# Altium schematic symbol library IC.SchLib: 10 symbols
Pins are listed as number, name and electrical type; pins without a type are passive.

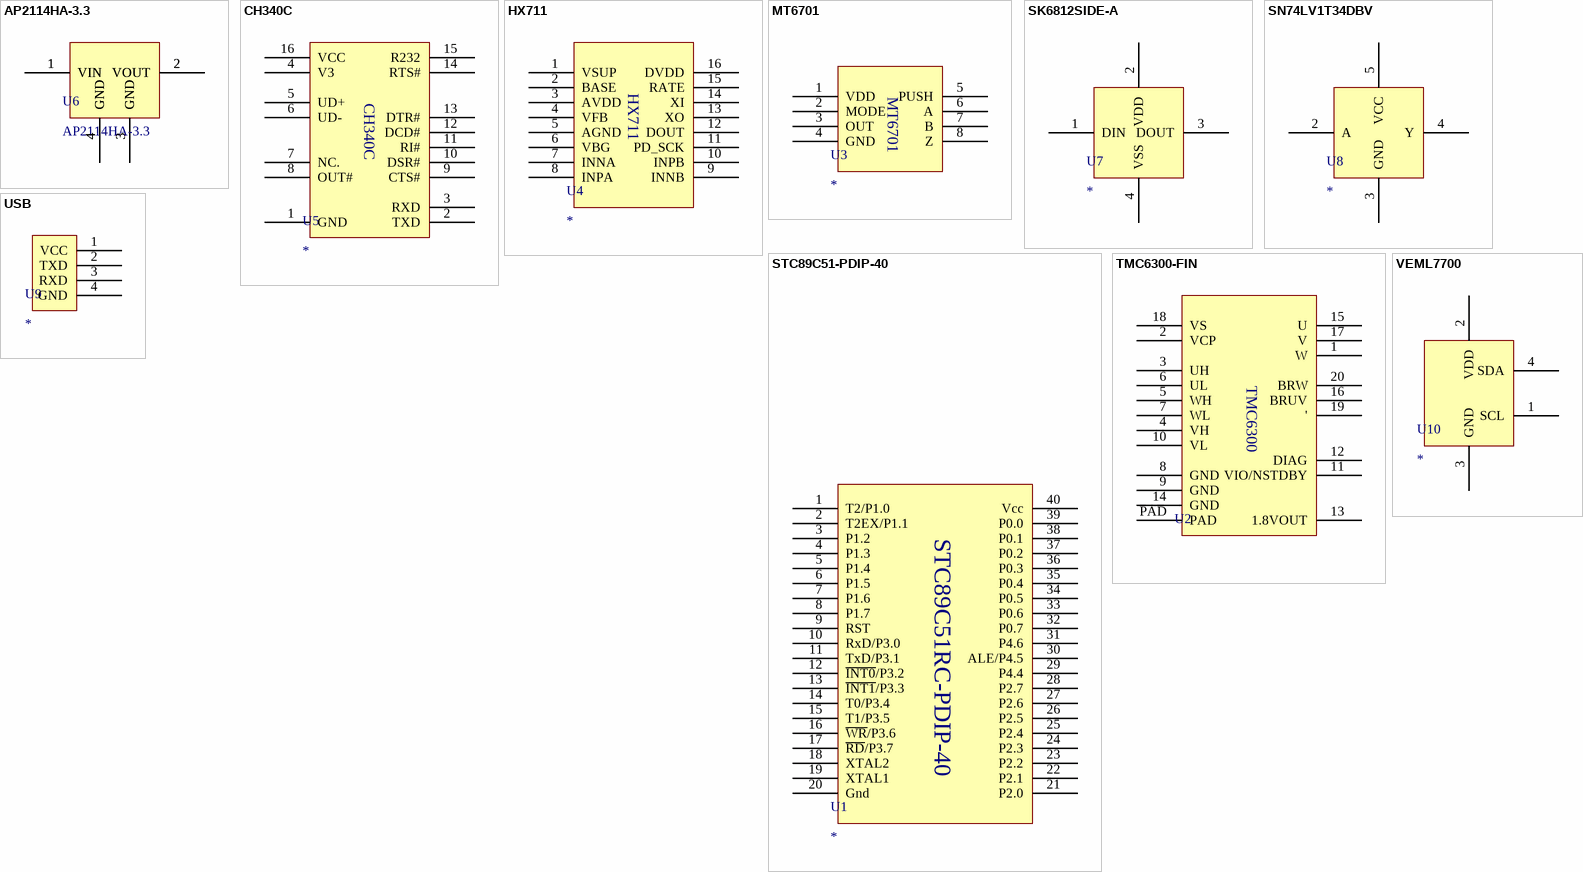
[diagram p0: symbols AP2114HA-3.3 to VEML7700]

## AP2114HA-3.3
designator U6
电压控制器
footprint 封装.AP2114HA-3.3TRG1
pins: 1 VIN (oc), 1 VIN (oc), 2 VOUT (oc), 2 VOUT (oc), 3 GND (oc), 3 GND (oc), 4 GND (oc), 4 GND (oc)

## CH340C
designator U5
USB-C转TTL驱动器
pins: 1 GND (oc), 2 TXD (oc), 3 RXD (oc), 4 V3 (oc), 5 UD+ (oc), 6 UD- (oc), 7 NC. (oc), 8 OUT# (oc), 9 CTS# (oc), 10 DSR# (oc), 11 RI# (oc), 12 DCD# (oc), 13 DTR# (oc), 14 RTS# (oc), 15 R232 (oc), 16 VCC (oc)

## HX711
designator U4
压力模数转换器
footprint 封装.HX711
pins: 1 VSUP (oc), 2 BASE (oc), 3 AVDD (oc), 4 VFB (oc), 5 AGND (oc), 6 VBG (oc), 7 INNA (oc), 8 INPA (oc), 9 INNB (oc), 10 INPB (oc), 11 PD_SCK (oc), 12 DOUT (oc), 13 XO (oc), 14 XI (oc), 15 RATE (oc), 16 DVDD (oc)

## MT6701
designator U3
霍尔传感器
footprint SOP-8_L4.9-W3.9-P1.27-LS6.0-BL
footprint 封装.MT6701
pins: 1 VDD (oc), 2 MODE (oc), 3 OUT (oc), 4 GND (oc), 5 PUSH (oc), 6 A (oc), 7 B (oc), 8 Z (oc)

## SK6812SIDE-A
designator U7
LED灯
footprint LED-SMD_4P-L4.0-W1.6-L
footprint LED-SMD_4P-L4.0-W1.6-L - duplicate
footprint 封装.SK6812SIDE-A
pins: 1 DIN (oc), 2 VDD (oc), 3 DOUT (oc), 4 VSS (oc)

## SN74LV1T34DBV
designator U8
电流放大器
footprint 封装.SN74LV1T34DBVR
pins: 2 A (oc), 3 GND (oc), 4 Y (oc), 5 VCC (oc)

## STC89C51-PDIP-40
designator U1
主控MCU
footprint 封装.STC89C51-PDIP-40
pins: 1 T2/P1.0 (oc), 2 T2EX/P1.1 (oc), 3 P1.2 (oc), 4 P1.3 (oc), 5 P1.4 (oc), 6 P1.5 (oc), 7 P1.6 (oc), 8 P1.7 (oc), 9 RST (oc), 10 RxD/P3.0 (oc), 11 TxD/P3.1 (oc), 12 ~{INT0}/P3.2 (oc), 13 ~{INT1}/P3.3 (oc), 14 T0/P3.4 (oc), 15 T1/P3.5 (oc), 16 ~{WR}/P3.6 (oc), 17 ~{RD}/P3.7 (oc), 18 XTAL2 (oc), 19 XTAL1 (oc), 20 Gnd (oc), 21 P2.0 (oc), 22 P2.1 (oc), 23 P2.2 (oc), 24 P2.3 (oc), 25 P2.4 (oc), 26 P2.5 (oc), 27 P2.6 (oc), 28 P2.7 (oc), 29 P4.4 (oc), 30 ALE/P4.5 (oc), 31 P4.6 (oc), 32 P0.7 (oc), 33 P0.6 (oc), 34 P0.5 (oc), 35 P0.4 (oc), 36 P0.3 (oc), 37 P0.2 (oc), 38 P0.1 (oc), 39 P0.0 (oc), 40 Vcc (oc)
text: STC89C51RC-PDIP-40

## TMC6300-FIN
designator U2
BLCD电机驱动
footprint QFN20_3x3_TRI
footprint 封装.TMC6300
pins: 1 W (oc), 2 VCP (oc), 3 UH (oc), 4 VH (oc), 5 WH (oc), 6 UL (oc), 7 WL (oc), 8 GND (oc), 9 GND (oc), 10 VL (oc), 11 VIO/NSTDBY (oc), 12 DIAG (oc), 13 1.8VOUT (oc), 14 GND (oc), 15 U (oc), 16 BRUV (oc), 17 V (oc), 18 VS (oc), 19 ' (oc), 20 BRW (oc), PAD (oc)
text: TMC6300

## USB
designator U9
USB接口
pins: 1 VCC (oc), 2 TXD (oc), 3 RXD (oc), 4 GND (oc)

## VEML7700
designator U10
感光想读传感器
footprint 封装.VEML7700
pins: 1 SCL (oc), 2 VDD (oc), 3 GND (oc), 4 SDA (oc)